# EAGLE library part 691413720011 (library Wurth_Elektronik_Electromechanic_Terminal_Blocks_Connectors_rev16b)
WR-TBL Terminal block - serie 413 5.0mm - Spring clamp/Screw less - 45° entry - 11p Code:Con_TBL_Screwless_5.00_6914137200xxB_691413720011 Created 2014-12-22, aslant tao 2014 (C) Würth Elektronik
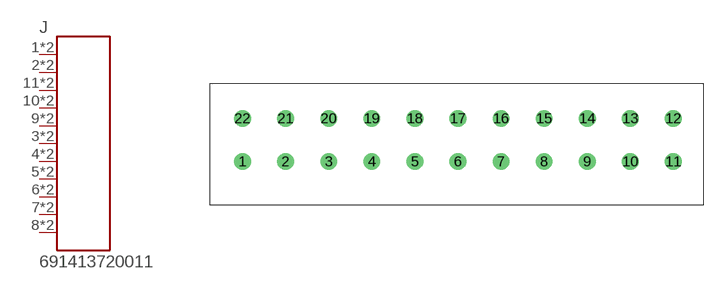
[diagram p258: symbol with the pads of 691413720011; footprint 691413720011]

Designator prefix J

## 691413720011  [691413720011]
1  1  pas
2  2  pas
3  6  pas
4  7  pas
5  8  pas
6  9  pas
7  10  pas
8  11  pas
9  5  pas
10  4  pas
11  3  pas
12  3  pas
13  4  pas
14  5  pas
15  11  pas
16  10  pas
17  9  pas
18  8  pas
19  7  pas
20  6  pas
21  2  pas
22  1  pas

## Footprint 691413720011 (pad centres in mm)
WR-TBL Serie 413 - 5.0mm Screwless 45° Entry - 3 mm2 Wires, 11 Pins
drill 1.3: 1 -5,-2.5; 2 0,-2.5; 3 5,-2.5; 4 10,-2.5; 5 15,-2.5; 6 20,-2.5; 7 25,-2.5; 8 30,-2.5; 9 35,-2.5; 10 40,-2.5; 11 45,-2.5; 12 45,2.5; 13 40,2.5; 14 35,2.5; 15 30,2.5; 16 25,2.5; 17 20,2.5; 18 15,2.5; 19 10,2.5; 20 5,2.5; 21 0,2.5; 22 -5,2.5